# EAGLE library part DCJACK (library srm20metal)
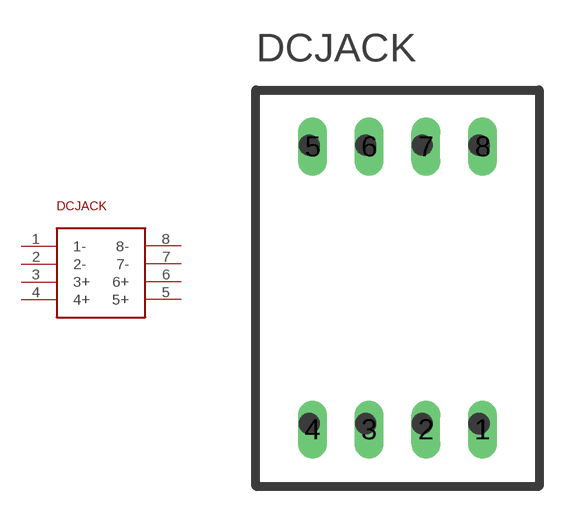
[diagram p0: symbol with the pads of DIPKIT; footprint DIPKIT]

Designator prefix -

## DCJACK  [DIPKIT]
1  1-
2  2-
3  3+
4  4+
5  5+
6  6+
7  7-
8  8-

## Footprint DIPKIT (pad centres in mm)
drill 0.8 long: 1 3.81,-6.35; 2 1.27,-6.35; 3 -1.27,-6.35; 4 -3.81,-6.35; 5 -3.81,6.35; 6 -1.27,6.35; 7 1.27,6.35; 8 3.81,6.35